# EAGLE library part ADUM5000ARWZ (library power_convertors)
2.5 kV, Isolated DC-to-DC Converter ADUM5000 FEATURES isoPower integrated, isolated dc-to-dc converter Regulated 3.3 V or 5 V output Up to 500 mW output power 16-lead SOIC package with 7.6 mm creepage High temperature operation: 105°C maximum Thermal overload protection Safety and regulatory approvals UL recognition 2500 V rms for 1 minute per UL 1577 CSA Component Acceptance Notice #5A VDE certificate of conformity (pending) IEC 60747-5-2 (VDE 0884, Part 2) VIORM = 560 V peak APPLICATIONS RS-232/RS-422/RS-485 transceivers Industrial field bus isolation Power supply startups and gate drives Isolated sensor interfaces Industrial PLCs GENERAL DESCRIPTION The ADuM50001 is an isolated dc-to-dc converter based on the Analog Devices, Inc., iCoupler® technology. The dc-to-dc converter in this device provides regulated, isolated power in several combinations of input and output voltages as listed in Table 1. The Analog Devices chip scale transformer, iCoupler technology, transfers isolated power in this dc-to-dc converter with up to 33% efficiency. The result is a small form factor, total isolation solution. Higher output power levels are obtained by using the ADuM5000 to augment the power output of ADuM5401, ADuM5402, ADuM5403, ADuM5404, ADuM520x, and other ADuM5000 iCouplers with isoPower®. isoPower uses high frequency switching elements to transfer power through its transformer. Special care must be taken during printed circuit board (PCB) layout to meet emissions standards. See the AN-0971 Application Note for board layout recommendations. APPLICATIONS INFORMATION The dc-to-dc converter section of the ADuM5000 works on principles that are common to most switching power supplies. It has a secondary side controller architecture with isolated pulse- width modulation (PWM) feedback. VDD1 power is supplied to an oscillating circuit that switches current into a chip scale air core transformer. Power transferred to the secondary side is rectified and regulated to either 3.3 V or 5 V. The secondary (VISO) side controller regulates the output by creating a PWM control signal that is sent to the primary (VDD1) side by a dedicated iCoupler data channel. The PWM modulates the oscillator circuit to control the power being sent to the secondary side. Feedback allows for significantly higher power and efficiency. The ADuM5000 provides a regulation control output (RCOUT) signal that can be connected to other isoPower devices. This feature allows a single regulator to control multiple power modules without contention. When auxiliary power modules are present, the VISO pins can be connected together to work as a single supply. Because there is only one feedback control path, the supplies work together seamlessly. The ADuM5000 can be a source of regulation control, as well as being controlled by another isoPower device. There is an undervoltage lockout (UVLO) with hysteresis in the VDD1 input protection circuit. When the input voltage rises above the UVLO threshold, the dc-to-dc converter becomes active. The input voltage must be decreased below the turn-on threshold by the hysteresis value to disable the converter. This feature has many benefits in the power-up sequence of the converter, such as ensuring that the system supply rises to a minimum level before the ADuM5000 demands current. It also prevents any voltage drop due to converter current from turning the supply off and possibly oscillating. PCB LAYOUT The ADuM5000 digital isolator is a 0.5 W isoPower integrated dc-to-dc converter that requires no external interface circuitry for the logic interfaces. Power supply bypassing is required at the input and output supply pins (see Figure 14). The power supply section of the ADuM5000 uses a 180 MHz oscillator frequency to pass power efficiently through its chip scale transformers. In addition, the normal operation of the data section of the iCoupler introduces switching transients on the power supply pins. Bypass capacitors are required for several operating frequencies. Noise suppression requires a low inductance, high frequency capacitor, whereas ripple suppression and proper regulation require a large value capacitor. These capacitors are most conveniently connected between Pin 1 and Pin 2 for VDD1, and between Pin 15 and Pin 16 for VISO. To suppress noise and reduce ripple, a parallel combination of at least two capacitors is required. The recommended capacitor values are 0.1 μF and 10 μF. Best practice recommends using a very low inductance ceramic capacitor, or its equivalent, for the smaller value. The total lead length between both ends of the capacitor and the input power supply pin should not exceed 10 mm. Consider bypassing between Pin 1 and Pin 8 and between Pin 9 and Pin 16 unless both common ground pins are connected together close to the package In applications involving high common-mode transients, ensure that board coupling across the isolation barrier is minimized. Furthermore, design the board layout such that any coupling that does occur affects all pins equally on a given component side. Failure to ensure this can cause voltage differentials between pins exceeding the absolute maximum ratings for the device as specified in Table 10, thereby leading to latch-up and/or permanent damage. The ADuM5000 is a power device that dissipates approximately 1 W of power when fully loaded. Because it is not possible to apply a heat sink to an isolation device, the device primarily depends on heat dissipation into the PCB through the GND pins. If the device is used at high ambient temperatures, provide a thermal path from the GND pins to the PCB ground plane. The board layout in Figure 14 shows enlarged pads for Pin 2 and Pin 8 (GND1) and for Pin 9 and Pin 15 (GNDISO). Implement multiple vias from the pad to the ground plane to significantly reduce the temperature inside the chip. The dimensions of the expanded pads are at the discretion of the designer and depend on the available board space. START-UP BEHAVIOR The ADuM5000 does not contain a soft start circuit. Take the start-up current and voltage behavior into account when designing with this device. When power is applied to VDD1, the input switching circuit begins to operate and draw current when the UVLO minimum voltage is reached. The switching circuit drives the maximum available power to the output until it reaches the regulation voltage where PWM control begins. The amount of current and time this takes depends on the load and the VDD1 slew rate. With a fast VDD1 slew rate (200 μs or less), the peak current draws up to 100 mA/V of VDD1. The input voltage goes high faster than the output can turn on; therefore, the peak current is proportional to the maximum input voltage. With a slow VDD1 slew rate (in the millisecond range), the input voltage does not change quickly when VDD1 reaches UVLO. The current surge is about 300 mA because VDD1 is nearly constant at the 2.7 V UVLO point. The behavior during start-up is similar to when the device load is a short circuit; these values are con- sistent with the short-circuit current shown in Figure 7. When starting the device for VISO = 5 V operation, do not limit the current available to the VDD1 power pin to less than 300 mA. The ADuM5000 may not be able to drive the output to the regulation point if a current-limiting device clamps the VDD1 voltage during startup. As a result, the ADuM5000 can draw large amounts of current at low voltage for extended periods. The output voltage of the ADuM5000 device exhibits VISO over- shoot during startup. If this could potentially damage components attached to VISO, then a voltage-limiting device, such as a Zener diode, can be used to clamp the voltage. Typical behavior is shown in Figure 12 and Figure 13. EMI CONSIDERATIONS It is necessary for the dc-to-dc converter section of the ADuM5000 to operate at 180 MHz to allow efficient power transfer through the small transformers. This creates high frequency currents that can propagate in circuit board ground and power planes, causing edge emissions and dipole radiation between the input and output ground planes. Grounded enclosures are recommended for applications that use these devices. If grounded enclosures are not possible, follow good RF design practices in the layout of the PCB. See the AN-0971 Application Note for board layout recommendations. THERMAL ANALYSIS The ADuM5000 consists of four internal silicon die, attached to a split lead frame with two die attach paddles. For the purposes of thermal analysis, it is treated as a thermal unit with the highest junction temperature reflected in the θJA from Table 5. The value of θJA is based on measurements taken with the part mounted on a JEDEC standard 4-layer board with fine width traces and still air. Under normal operating conditions, the ADuM5000 operates at full load across the full temperature range without derating the output current. However, following the recommen- dations in the PCB Layout section decreases the thermal resistance to the PCB, allowing increased thermal margin at high ambient temperatures. CURRENT LIMIT AND THERMAL OVERLOAD PROTECTION The ADuM5000 is protected against damage due to excessive power dissipation by thermal overload protection circuits. Thermal overload protection limits the junction temperature to a maximum of 150°C (typical). Under extreme conditions (that is, high ambient temperature and power dissipation), when the junction temper- ature starts to rise above 150°C, the PWM is turned off, which turns off the output current. When the junction temperature falls below 130°C (typical), the PWM turns on again, restoring the output current to its nominal value. Consider the case where a hard short from VISO to ground occurs. At first, the ADuM5000 reaches its maximum current, which is proportional to the voltage applied at VDD1. Power dissipates on the primary side of the converter (see Figure 7). If self-heating of the junction becomes great enough to cause its temperature to rise above 150°C, thermal shutdown activates, turning off the PWM and turning off the output current. As the junction temperature cools and falls below 130°C, the PWM turns on and power dissipates again on the primary side of the converter, causing the junction temperature to rise to 150°C again. This thermal oscillation between 130°C and 150°C causes the part to cycle on and off as long as the short remains at the output. Thermal limit protections are intended to protect the device against accidental overload conditions. For reliable operation, externally limit device power dissipation to prevent junction temperatures from exceeding 130°C. POWER CONSIDERATIONS The ADuM5000 converter primary side is protected from pre- mature operation by undervoltage lockout (UVLO) circuitry. Below the minimum operating voltage, the power converter holds its oscillator inactive. When the primary side oscillator begins to operate, it transfers power to the secondary power circuits. The secondary VISO voltage starts below its UVLO limit making it inactive and unable to generate a regulation control signal. The primary side power oscillator is allowed to free run under this condition, supplying the maximum amount of power to the secondary side. As the secondary side voltage rises to its regulation setpoint, a large inrush current transient is present at VDD1. When the regulation point is reached, the regulation control circuit produces the regulation control signal that modulates the oscillator on the primary side. The VDD1 current is then reduced and is proportional to the load current. The inrush current is less than the short- circuit current shown in Figure 7. The duration of the inrush depends on the VISO loading conditions and on the current and voltage available at the VDD1 pin.
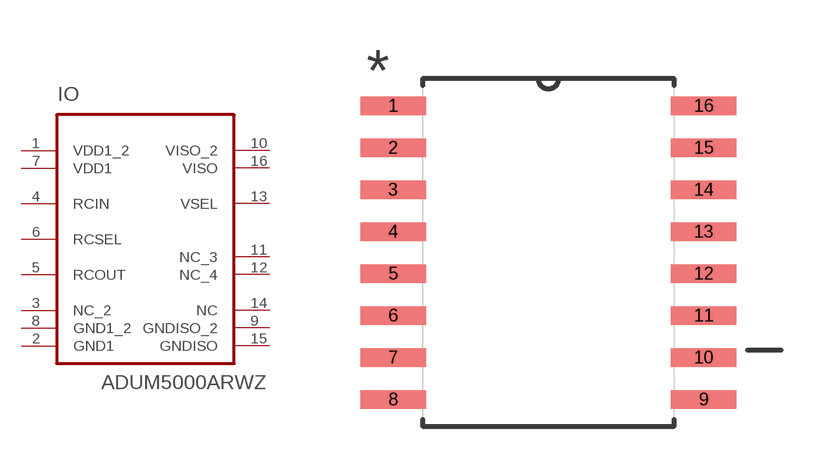
[diagram p0: symbol with the pads of SOIC127P1032X265-16N; footprint SOIC127P1032X265-16N]

Designator prefix IO

## ADUM5000ARWZ (MPN: ADUM5000ARWZ; OC_FARNELL: 1701256; OC_NEWARK: 19P8235; PACKAGE: SOIC-16; SUPPLIER: Analog Devices)  [SOIC127P1032X265-16N]
1  VDD1_2  pwr
2  GND1  pas
3  NC_2  nc
4  RCIN  in
5  RCOUT  out
6  RCSEL  in
7  VDD1  pwr
8  GND1_2  pas
9  GNDISO_2  pas
10  VISO_2  out
11  NC_3  nc
12  NC_4  nc
13  VSEL  in
14  NC  nc
15  GNDISO  pas
16  VISO  out

## Footprint SOIC127P1032X265-16N (pad centres in mm)
smd 1.981 x 0.559: 1 -4.699,4.445; 2 -4.699,3.175; 3 -4.699,1.905; 4 -4.699,0.635; 5 -4.699,-0.635; 6 -4.699,-1.905; 7 -4.699,-3.175; 8 -4.699,-4.445; 9 4.699,-4.445; 10 4.699,-3.175; 11 4.699,-1.905; 12 4.699,-0.635; 13 4.699,0.635; 14 4.699,1.905; 15 4.699,3.175; 16 4.699,4.445